# Altium footprint library SMA.PcbLib: 2 footprints
Each footprint in its own frame and in the unit in brackets; x right, y up, seen from the top. Pads: shape width x height; smd on the part's side, far side on the other; paste and mask are expansions set on the pad; w line width, h text height; cw(c..) or ccw(c..) is an arc to the next point about the centre after c.
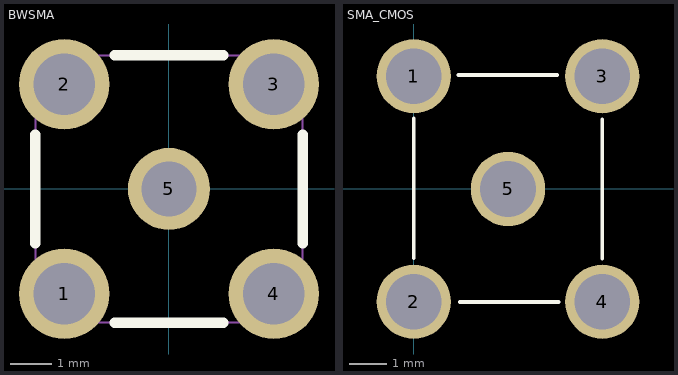
[diagram p0: the footprints below, top view; thin cyan lines are the x and y axes]

## BWSMA [mm]
pads (5):
  round 2.2 hole 1.5 paste-2539.97 mask+0.051: 1(-2.55,-2.55) 2(-2.55,2.55) 3(2.55,2.55)
  round 2.2 hole 1.5 copper offset 0,0 paste-2539.97 mask+0.051: 4(2.55,-2.55)
  round 2 hole 1.35 paste-2539.97 mask+0.051: 5(0,0)
Top Overlay:
  lines w0.254: -3.25,-1.316 -3.25,1.316 ; -1.316,-3.25 1.316,-3.25 ; -1.316,3.25 1.316,3.25 ; 3.25,-1.316 3.25,1.316
Mechanical 15:
  region: -3.19,-3.25 -3.191,-3.226 -3.226,-3.192 -3.274,-3.192 -3.309,-3.226 -3.31,-3.25 -3.309,-3.274 -3.274,-3.308 -3.226,-3.308 -3.191,-3.274 -3.19,-3.25
  region: 0.425,0 0.425,0.085 0.36,0.241 0.241,0.361 0.084,0.425 -0.085,0.425 -0.241,0.361 -0.361,0.241 -0.425,0.085 -0.425,0 -0.425,-0.084 -0.361,-0.241 -0.241,-0.36 -0.085,-0.425 0.084,-0.425 0.241,-0.36 0.36,-0.241 0.425,-0.084 0.425,0
  region: 2.1,-2.1 3,-2.1 3,-3 2.1,-3
  region: 2.1,3 3,3 3,2.1 2.1,2.1
  region: -3,3 -2.1,3 -2.1,2.1 -3,2.1
  region: -3,-2.1 -2.1,-2.1 -2.1,-3 -3,-3
  lines w0.051: -3.25,-3.25 3.25,-3.25 3.25,3.25 -3.25,3.25 -3.25,-3.25
3D body "SSMA-KE.STEP": height 8, standoff -2.5, extent -2.54,-2.5 2.46,2.5

## SMA_CMOS [mm]
pads (5):
  round 2 hole 1.5 mask+0.05: 1(0,3.04) 2(0,-3.04) 3(5.08,3.04) 4(5.08,-3.04) 5(2.54,0)
Top Overlay:
  lines w0.1: 0,-1.856 0,1.898 ; 1.199,3.068 3.861,3.068 ; 1.237,-3.043 3.899,-3.043 ; 5.08,-1.877 5.08,1.877